# Altium schematic symbol library Button Switch.SchLib: 2 symbols
Pins are listed as number, name and electrical type; pins without a type are passive.

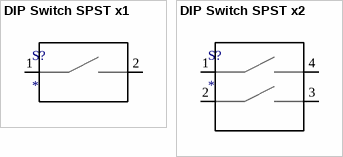
[diagram p0: symbols DIP Switch SPST x1 to DIP Switch SPST x2]

## DIP Switch SPST x1
designator S?
Name: *
pins: 1, 2

## DIP Switch SPST x2
designator S?
Name: *
pins: 1, 2, 3, 4